# Altium schematic symbol library SMD push button.SchLib: 1 symbol
Pins are listed as number, name and electrical type; pins without a type are passive.

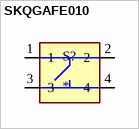
[diagram p0: symbol SKQGAFE010]

## SKQGAFE010
designator S?
Switch Tactile N.O. SPST Button Gull Wing 0.05A 12VDC 0.98N SMD T/R; MP: SKQGAFE010; MF: ALPS; Price: None; Availability: In Stock; Package: None; Value: *; Purchase-URL: https://pricing.snapeda.com/search/part/SKQGAFE010/?ref=eda
footprint SW_SKQGAFE010
pins: 1, 2, 3, 4